# Altium schematic symbol library SCH - RF - MODULE - U-BLOX SARA-R410M-02B-01.SchLib: 1 symbol
Pins are listed as number, name and electrical type; pins without a type are passive.

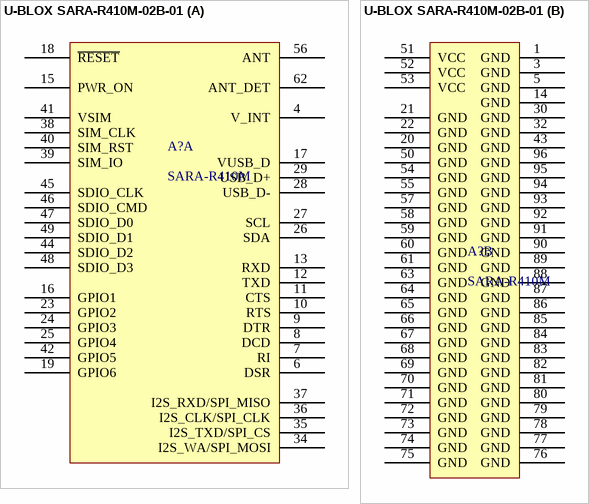
[diagram p0: symbol U-BLOX SARA-R410M-02B-01]

## U-BLOX SARA-R410M-02B-01
designator A?, comment SARA-R410M
u-blox RF TXRX CELL 4G LTE CATM1/NB-IOT
part A pins: 4 V_INT, 6 DSR, 7 RI, 8 DCD, 9 DTR, 10 RTS, 11 CTS, 12 TXD, 13 RXD, 15 PWR_ON, 16 GPIO1, 17 VUSB_D, 18 ~{RESET}, 19 GPIO6, 23 GPIO2, 24 GPIO3, 25 GPIO4, 26 SDA, 27 SCL, 28 USB_D-, 29 USB_D+, 34 I2S_WA/SPI_MOSI, 35 I2S_TXD/SPI_CS, 36 I2S_CLK/SPI_CLK, 37 I2S_RXD/SPI_MISO, 38 SIM_CLK, 39 SIM_IO, 40 SIM_RST, 41 VSIM, 42 GPIO5, 44 SDIO_D2, 45 SDIO_CLK, 46 SDIO_CMD, 47 SDIO_D0, 48 SDIO_D3, 49 SDIO_D1, 56 ANT, 62 ANT_DET
part B pins: 1 GND, 3 GND, 5 GND, 14 GND, 20 GND, 21 GND, 22 GND, 30 GND, 32 GND, 43 GND, 50 GND, 51 VCC, 52 VCC, 53 VCC, 54 GND, 55 GND, 57 GND, 58 GND, 59 GND, 60 GND, 61 GND, 63 GND, 64 GND, 65 GND, 66 GND, 67 GND, 68 GND, 69 GND, 70 GND, 71 GND, 72 GND, 73 GND, 74 GND, 75 GND, 76 GND, 77 GND, 78 GND, 79 GND, 80 GND, 81 GND, 82 GND, 83 GND, 84 GND, 85 GND, 86 GND, 87 GND, 88 GND, 89 GND, 90 GND, 91 GND, 92 GND, 93 GND, 94 GND, 95 GND, 96 GND